# Altium footprint library SM_DFN8(2x3)-P050_N.PcbLib: 1 footprints
Each footprint in its own frame and in the unit in brackets; x right, y up, seen from the top. Pads: shape width x height; smd on the part's side, far side on the other; paste and mask are expansions set on the pad; w line width, h text height; cw(c..) or ccw(c..) is an arc to the next point about the centre after c.
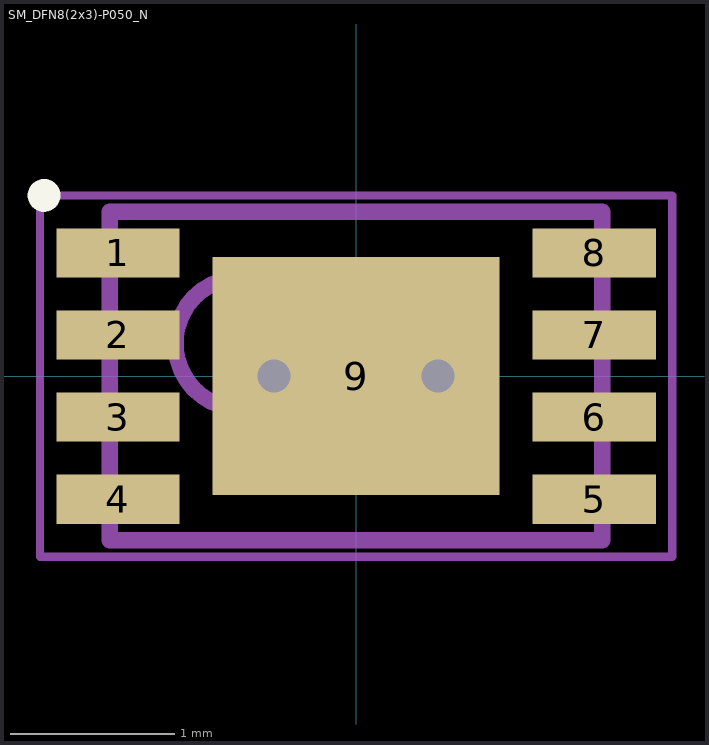
[diagram p0: the footprint, top view; thin cyan lines are the x and y axes]

## SM_DFN8(2x3)-P050_N [mm] "DFN, 8-Leads, Body 2x3mm, Pitch 0.5mm, Thermal Pad, IPC Medium Density"
height 1.1
pads (9):
  rect 0.75x0.3 smd mask+0.102: 1(-1.45,0.75) 2(-1.45,0.25) 3(-1.45,-0.25) 4(-1.45,-0.75) 5(1.45,-0.75) 6(1.45,-0.25) 7(1.45,0.25) 8(1.45,0.75)
  rect 1.75x1.45 smd mask+0.102: 9(0,0)
via 0.5,0 diameter 0.5 hole 0.2
via -0.5,0 diameter 0.5 hole 0.2
Top Overlay:
  circle w0.1: c-1.9,1.1 r0.05
Mechanical 13:
  circle w0.1: c-0.7,0.2 r0.4
  lines w0.1: -1.5,-1 1.5,-1 1.5,1 -1.5,1 -1.5,-1
Mechanical 15:
  lines w0.05: -1.925,-1.1 1.925,-1.1 1.925,1.1 -1.925,1.1 -1.925,-1.1
  lines w0.1: -0.5,0 0.5,0 ; 0,-0.5 0,0.5
3D body: height 1, standoff 0, extent -1.5,-1 1.5,1